# Altium schematic symbol library PS2811-1M.Schlib: 1 symbol
Pins are listed as number, name and electrical type; pins without a type are passive.

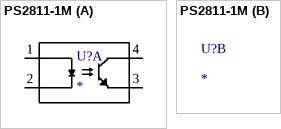
[diagram p0: symbol PS2811-1M]

## PS2811-1M
designator U?
Optoisolator Transistor Output - 1 Channel 4-DIP
part A pins: 1 ANODE, 2 CATHODE, 3 EMITTER, 4 COLLECTOR